# EAGLE library part KAC-12040 (library KAC-12040)
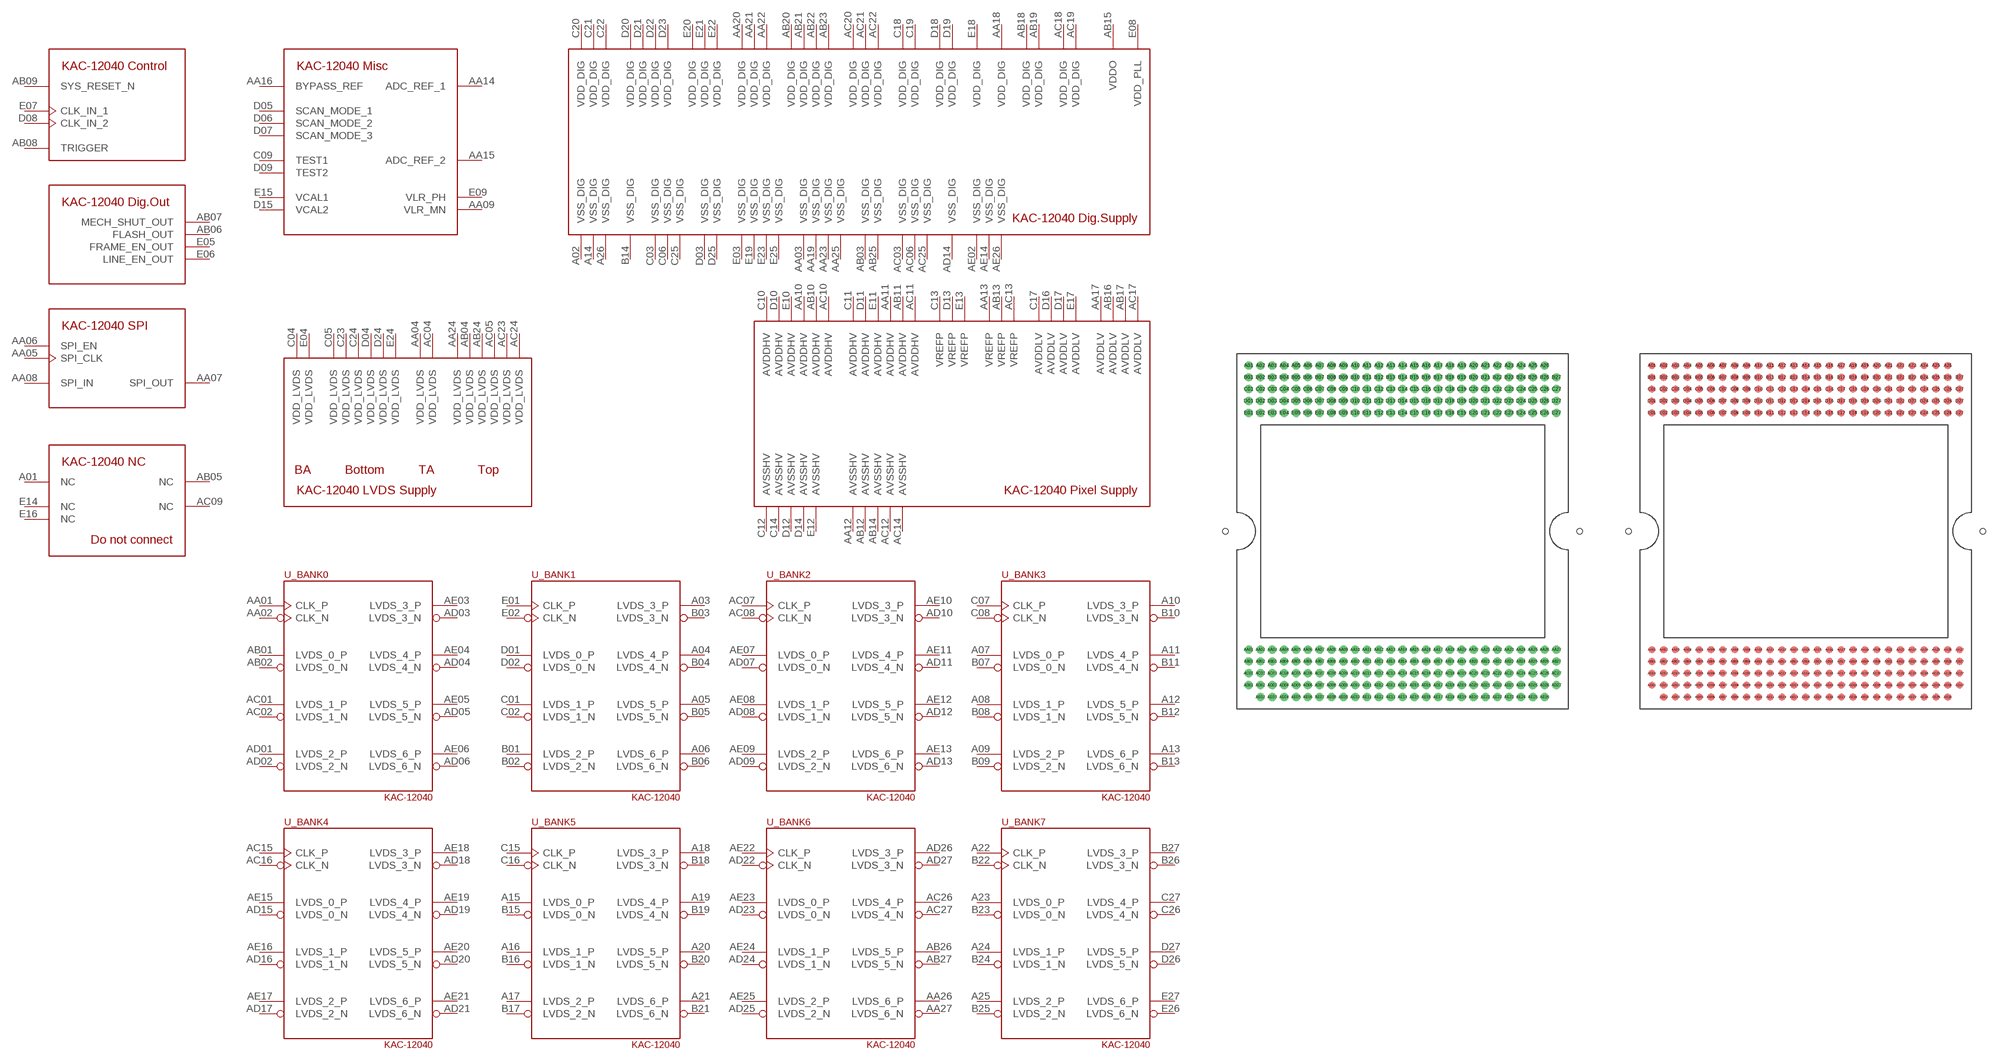
[diagram p0: symbol with the pads of KAC-12040-400T4; footprints KAC-12040-400T4, KAC-12040-RB501T4]

Designator prefix -; gates _MISC=KAC-12040_MISC _CTRL=KAC-12040_CTRL _NC=KAC-12040_NC _DIGOUT=KAC-12040_DIGOUT _PWR_LVDS=KAC-12040_PWR_LVDS _BANK0=KAS-12040_LVDS_BANK _BANK1=KAS-12040_LVDS_BANK _BANK2=KAS-12040_LVDS_BANK _BANK3=KAS-12040_LVDS_BANK _BANK4=KAS-12040_LVDS_BANK _BANK5=KAS-12040_LVDS_BANK _BANK7=KAS-12040_LVDS_BANK _BANK6=KAS-12040_LVDS_BANK _PWR_DIG=KAC-12040_PWR_DIG _PWR_PIXEL=KAC-12040_PWR_PIXEL _SPI=KAC-12040_SPI

## KAC-12040  [KAC-12040-400T4]
A01  _NC:NC  nc
A02  _PWR_DIG:VSS_DIG  pwr
A03  _BANK1:LVDS_3_P  out
A04  _BANK1:LVDS_4_P  out
A05  _BANK1:LVDS_5_P  out
A06  _BANK1:LVDS_6_P  out
A07  _BANK3:LVDS_0_P  out
A08  _BANK3:LVDS_1_P  out
A09  _BANK3:LVDS_2_P  out
A10  _BANK3:LVDS_3_P  out
A11  _BANK3:LVDS_4_P  out
A12  _BANK3:LVDS_5_P  out
A13  _BANK3:LVDS_6_P  out
A14  _PWR_DIG:VSS_DIG  pwr
A15  _BANK5:LVDS_0_P  out
A16  _BANK5:LVDS_1_P  out
A17  _BANK5:LVDS_2_P  out
A18  _BANK5:LVDS_3_P  out
A19  _BANK5:LVDS_4_P  out
A20  _BANK5:LVDS_5_P  out
A21  _BANK5:LVDS_6_P  out
A22  _BANK7:CLK_P  out
A23  _BANK7:LVDS_0_P  out
A24  _BANK7:LVDS_1_P  out
A25  _BANK7:LVDS_2_P  out
A26  _PWR_DIG:VSS_DIG  pwr
AA01  _BANK0:CLK_P  out
AA02  _BANK0:CLK_N  out
AA03  _PWR_DIG:VSS_DIG  pwr
AA04  _PWR_LVDS:VDD_LVDS  pwr
AA05  _SPI:SPI_CLK  in
AA06  _SPI:SPI_EN  in
AA07  _SPI:SPI_OUT  out
AA08  _SPI:SPI_IN  in
AA09  _MISC:VLR_MN
AA10  _PWR_PIXEL:AVDDHV  pwr
AA11  _PWR_PIXEL:AVDDHV  pwr
AA12  _PWR_PIXEL:AVSSHV  pwr
AA13  _PWR_PIXEL:VREFP  pwr
AA14  _MISC:ADC_REF_1
AA15  _MISC:ADC_REF_2
AA16  _MISC:BYPASS_REF
AA17  _PWR_PIXEL:AVDDLV  pwr
AA18  _PWR_DIG:VDD_DIG  pwr
AA19  _PWR_DIG:VSS_DIG  pwr
AA20  _PWR_DIG:VDD_DIG  pwr
AA21  _PWR_DIG:VDD_DIG  pwr
AA22  _PWR_DIG:VDD_DIG  pwr
AA23  _PWR_DIG:VSS_DIG  pwr
AA24  _PWR_LVDS:VDD_LVDS  pwr
AA25  _PWR_DIG:VSS_DIG  pwr
AA26  _BANK6:LVDS_6_P  out
AA27  _BANK6:LVDS_6_N  out
AB01  _BANK0:LVDS_0_P  out
AB02  _BANK0:LVDS_0_N  out
AB03  _PWR_DIG:VSS_DIG  pwr
AB04  _PWR_LVDS:VDD_LVDS  pwr
AB05  _NC:NC  nc
AB06  _DIGOUT:FLASH_OUT  out
AB07  _DIGOUT:MECH_SHUT_OUT  out
AB08  _CTRL:TRIGGER  in
AB09  _CTRL:SYS_RESET_N  in
AB10  _PWR_PIXEL:AVDDHV  pwr
AB11  _PWR_PIXEL:AVDDHV  pwr
AB12  _PWR_PIXEL:AVSSHV  pwr
AB13  _PWR_PIXEL:VREFP  pwr
AB14  _PWR_PIXEL:AVSSHV  pwr
AB15  _PWR_DIG:VDDO  pwr
AB16  _PWR_PIXEL:AVDDLV  pwr
AB17  _PWR_PIXEL:AVDDLV  pwr
AB18  _PWR_DIG:VDD_DIG  pwr
AB19  _PWR_DIG:VDD_DIG  pwr
AB20  _PWR_DIG:VDD_DIG  pwr
AB21  _PWR_DIG:VDD_DIG  pwr
AB22  _PWR_DIG:VDD_DIG  pwr
AB23  _PWR_DIG:VDD_DIG  pwr
AB24  _PWR_LVDS:VDD_LVDS  pwr
AB25  _PWR_DIG:VSS_DIG  pwr
AB26  _BANK6:LVDS_5_P  out
AB27  _BANK6:LVDS_5_N  out
AC01  _BANK0:LVDS_1_P  out
AC02  _BANK0:LVDS_1_N  out
AC03  _PWR_DIG:VSS_DIG  pwr
AC04  _PWR_LVDS:VDD_LVDS  pwr
AC05  _PWR_LVDS:VDD_LVDS  pwr
AC06  _PWR_DIG:VSS_DIG  pwr
AC07  _BANK2:CLK_P  out
AC08  _BANK2:CLK_N  out
AC09  _NC:NC  nc
AC10  _PWR_PIXEL:AVDDHV  pwr
AC11  _PWR_PIXEL:AVDDHV  pwr
AC12  _PWR_PIXEL:AVSSHV  pwr
AC13  _PWR_PIXEL:VREFP  pwr
AC14  _PWR_PIXEL:AVSSHV  pwr
AC15  _BANK4:CLK_P  out
AC16  _BANK4:CLK_N  out
AC17  _PWR_PIXEL:AVDDLV  pwr
AC18  _PWR_DIG:VDD_DIG  pwr
AC19  _PWR_DIG:VDD_DIG  pwr
AC20  _PWR_DIG:VDD_DIG  pwr
AC21  _PWR_DIG:VDD_DIG  pwr
AC22  _PWR_DIG:VDD_DIG  pwr
AC23  _PWR_LVDS:VDD_LVDS  pwr
AC24  _PWR_LVDS:VDD_LVDS  pwr
AC25  _PWR_DIG:VSS_DIG  pwr
AC26  _BANK6:LVDS_4_P  out
AC27  _BANK6:LVDS_4_N  out
AD01  _BANK0:LVDS_2_P  out
AD02  _BANK0:LVDS_2_N  out
AD03  _BANK0:LVDS_3_N  out
AD04  _BANK0:LVDS_4_N  out
AD05  _BANK0:LVDS_5_N  out
AD06  _BANK0:LVDS_6_N  out
AD07  _BANK2:LVDS_0_N  out
AD08  _BANK2:LVDS_1_N  out
AD09  _BANK2:LVDS_2_N  out
AD10  _BANK2:LVDS_3_N  out
AD11  _BANK2:LVDS_4_N  out
AD12  _BANK2:LVDS_5_N  out
AD13  _BANK2:LVDS_6_N  out
AD14  _PWR_DIG:VSS_DIG  pwr
AD15  _BANK4:LVDS_0_N  out
AD16  _BANK4:LVDS_1_N  out
AD17  _BANK4:LVDS_2_N  out
AD18  _BANK4:LVDS_3_N  out
AD19  _BANK4:LVDS_4_N  out
AD20  _BANK4:LVDS_5_N  out
AD21  _BANK4:LVDS_6_N  out
AD22  _BANK6:CLK_N  out
AD23  _BANK6:LVDS_0_N  out
AD24  _BANK6:LVDS_1_N  out
AD25  _BANK6:LVDS_2_N  out
AD26  _BANK6:LVDS_3_P  out
AD27  _BANK6:LVDS_3_N  out
AE02  _PWR_DIG:VSS_DIG  pwr
AE03  _BANK0:LVDS_3_P  out
AE04  _BANK0:LVDS_4_P  out
AE05  _BANK0:LVDS_5_P  out
AE06  _BANK0:LVDS_6_P  out
AE07  _BANK2:LVDS_0_P  out
AE08  _BANK2:LVDS_1_P  out
AE09  _BANK2:LVDS_2_P  out
AE10  _BANK2:LVDS_3_P  out
AE11  _BANK2:LVDS_4_P  out
AE12  _BANK2:LVDS_5_P  out
AE13  _BANK2:LVDS_6_P  out
AE14  _PWR_DIG:VSS_DIG  pwr
AE15  _BANK4:LVDS_0_P  out
AE16  _BANK4:LVDS_1_P  out
AE17  _BANK4:LVDS_2_P  out
AE18  _BANK4:LVDS_3_P  out
AE19  _BANK4:LVDS_4_P  out
AE20  _BANK4:LVDS_5_P  out
AE21  _BANK4:LVDS_6_P  out
AE22  _BANK6:CLK_P  out
AE23  _BANK6:LVDS_0_P  out
AE24  _BANK6:LVDS_1_P  out
AE25  _BANK6:LVDS_2_P  out
AE26  _PWR_DIG:VSS_DIG  pwr
B01  _BANK1:LVDS_2_P  out
B02  _BANK1:LVDS_2_N  out
B03  _BANK1:LVDS_3_N  out
B04  _BANK1:LVDS_4_N  out
B05  _BANK1:LVDS_5_N  out
B06  _BANK1:LVDS_6_N  out
B07  _BANK3:LVDS_0_N  out
B08  _BANK3:LVDS_1_N  out
B09  _BANK3:LVDS_2_N  out
B10  _BANK3:LVDS_3_N  out
B11  _BANK3:LVDS_4_N  out
B12  _BANK3:LVDS_5_N  out
B13  _BANK3:LVDS_6_N  out
B14  _PWR_DIG:VSS_DIG  pwr
B15  _BANK5:LVDS_0_N  out
B16  _BANK5:LVDS_1_N  out
B17  _BANK5:LVDS_2_N  out
B18  _BANK5:LVDS_3_N  out
B19  _BANK5:LVDS_4_N  out
B20  _BANK5:LVDS_5_N  out
B21  _BANK5:LVDS_6_N  out
B22  _BANK7:CLK_N  out
B23  _BANK7:LVDS_0_N  out
B24  _BANK7:LVDS_1_N  out
B25  _BANK7:LVDS_2_N  out
B26  _BANK7:LVDS_3_N  out
B27  _BANK7:LVDS_3_P  out
C01  _BANK1:LVDS_1_P  out
C02  _BANK1:LVDS_1_N  out
C03  _PWR_DIG:VSS_DIG  pwr
C04  _PWR_LVDS:VDD_LVDS  pwr
C05  _PWR_LVDS:VDD_LVDS  pwr
C06  _PWR_DIG:VSS_DIG  pwr
C07  _BANK3:CLK_P  out
C08  _BANK3:CLK_N  out
C09  _MISC:TEST1
C10  _PWR_PIXEL:AVDDHV  pwr
C11  _PWR_PIXEL:AVDDHV  pwr
C12  _PWR_PIXEL:AVSSHV  pwr
C13  _PWR_PIXEL:VREFP  pwr
C14  _PWR_PIXEL:AVSSHV  pwr
C15  _BANK5:CLK_P  out
C16  _BANK5:CLK_N  out
C17  _PWR_PIXEL:AVDDLV  pwr
C18  _PWR_DIG:VDD_DIG  pwr
C19  _PWR_DIG:VDD_DIG  pwr
C20  _PWR_DIG:VDD_DIG  pwr
C21  _PWR_DIG:VDD_DIG  pwr
C22  _PWR_DIG:VDD_DIG  pwr
C23  _PWR_LVDS:VDD_LVDS  pwr
C24  _PWR_LVDS:VDD_LVDS  pwr
C25  _PWR_DIG:VSS_DIG  pwr
C26  _BANK7:LVDS_4_N  out
C27  _BANK7:LVDS_4_P  out
D01  _BANK1:LVDS_0_P  out
D02  _BANK1:LVDS_0_N  out
D03  _PWR_DIG:VSS_DIG  pwr
D04  _PWR_LVDS:VDD_LVDS  pwr
D05  _MISC:SCAN_MODE_1
D06  _MISC:SCAN_MODE_2
D07  _MISC:SCAN_MODE_3
D08  _CTRL:CLK_IN_2  in
D09  _MISC:TEST2
D10  _PWR_PIXEL:AVDDHV  pwr
D11  _PWR_PIXEL:AVDDHV  pwr
D12  _PWR_PIXEL:AVSSHV  pwr
D13  _PWR_PIXEL:VREFP  pwr
D14  _PWR_PIXEL:AVSSHV  pwr
D15  _MISC:VCAL2
D16  _PWR_PIXEL:AVDDLV  pwr
D17  _PWR_PIXEL:AVDDLV  pwr
D18  _PWR_DIG:VDD_DIG  pwr
D19  _PWR_DIG:VDD_DIG  pwr
D20  _PWR_DIG:VDD_DIG  pwr
D21  _PWR_DIG:VDD_DIG  pwr
D22  _PWR_DIG:VDD_DIG  pwr
D23  _PWR_DIG:VDD_DIG  pwr
D24  _PWR_LVDS:VDD_LVDS  pwr
D25  _PWR_DIG:VSS_DIG  pwr
D26  _BANK7:LVDS_5_N  out
D27  _BANK7:LVDS_5_P  out
E01  _BANK1:CLK_P  out
E02  _BANK1:CLK_N  out
E03  _PWR_DIG:VSS_DIG  pwr
E04  _PWR_LVDS:VDD_LVDS  pwr
E05  _DIGOUT:FRAME_EN_OUT  out
E06  _DIGOUT:LINE_EN_OUT  out
E07  _CTRL:CLK_IN_1  in
E08  _PWR_DIG:VDD_PLL  pwr
E09  _MISC:VLR_PH
E10  _PWR_PIXEL:AVDDHV  pwr
E11  _PWR_PIXEL:AVDDHV  pwr
E12  _PWR_PIXEL:AVSSHV  pwr
E13  _PWR_PIXEL:VREFP  pwr
E14  _NC:NC  nc
E15  _MISC:VCAL1
E16  _NC:NC  nc
E17  _PWR_PIXEL:AVDDLV  pwr
E18  _PWR_DIG:VDD_DIG  pwr
E19  _PWR_DIG:VSS_DIG  pwr
E20  _PWR_DIG:VDD_DIG  pwr
E21  _PWR_DIG:VDD_DIG  pwr
E22  _PWR_DIG:VDD_DIG  pwr
E23  _PWR_DIG:VSS_DIG  pwr
E24  _PWR_LVDS:VDD_LVDS  pwr
E25  _PWR_DIG:VSS_DIG  pwr
E26  _BANK7:LVDS_6_N  out
E27  _BANK7:LVDS_6_P  out

## KAC-12040-RB501T4  [KAC-12040-RB501T4]
Pads as for KAC-12040-400T4

## KAC-12040FOXCONN-754  [FOXCONN-754]
Pads as for KAC-12040-400T4

## Footprint KAC-12040-400T4 (pad centres in mm)
Package for Andon Socket 10-29-18A-267-400T4-R27-L14 Through Hole socket for the KAC-12040 sensor. The sensor ceramic footprint and active area (4000x3000 pixels) are drawn as well for placement.
drill 0.361: A01 -16.51,17.78; A02 -15.24,17.78; A03 -13.97,17.78; A04 -12.7,17.78; A05 -11.43,17.78; A06 -10.16,17.78; A07 -8.89,17.78; A08 -7.62,17.78; A09 -6.35,17.78; A10 -5.08,17.78; A11 -3.81,17.78; A12 -2.54,17.78; A13 -1.27,17.78; A14 0,17.78; A15 1.27,17.78; A16 2.54,17.78; A17 3.81,17.78; A18 5.08,17.78; A19 6.35,17.78; A20 7.62,17.78; A21 8.89,17.78; A22 10.16,17.78; A23 11.43,17.78; A24 12.7,17.78; A25 13.97,17.78; A26 15.24,17.78; AA01 -16.51,-12.7; AA02 -15.24,-12.7; AA03 -13.97,-12.7; AA04 -12.7,-12.7; AA05 -11.43,-12.7; AA06 -10.16,-12.7; AA07 -8.89,-12.7; AA08 -7.62,-12.7; AA09 -6.35,-12.7; AA10 -5.08,-12.7; AA11 -3.81,-12.7; AA12 -2.54,-12.7; AA13 -1.27,-12.7; AA14 0,-12.7; AA15 1.27,-12.7; AA16 2.54,-12.7; AA17 3.81,-12.7; AA18 5.08,-12.7; AA19 6.35,-12.7; AA20 7.62,-12.7; AA21 8.89,-12.7; AA22 10.16,-12.7; AA23 11.43,-12.7; AA24 12.7,-12.7; AA25 13.97,-12.7; AA26 15.24,-12.7; AA27 16.51,-12.7; AB01 -16.51,-13.97; AB02 -15.24,-13.97; AB03 -13.97,-13.97; AB04 -12.7,-13.97; AB05 -11.43,-13.97; AB06 -10.16,-13.97; AB07 -8.89,-13.97; AB08 -7.62,-13.97; AB09 -6.35,-13.97; AB10 -5.08,-13.97; AB11 -3.81,-13.97; AB12 -2.54,-13.97; AB13 -1.27,-13.97; AB14 0,-13.97; AB15 1.27,-13.97; AB16 2.54,-13.97; AB17 3.81,-13.97; AB18 5.08,-13.97; AB19 6.35,-13.97; AB20 7.62,-13.97; AB21 8.89,-13.97; AB22 10.16,-13.97; AB23 11.43,-13.97; AB24 12.7,-13.97; AB25 13.97,-13.97; AB26 15.24,-13.97; AB27 16.51,-13.97; AC01 -16.51,-15.24; AC02 -15.24,-15.24; AC03 -13.97,-15.24; AC04 -12.7,-15.24; AC05 -11.43,-15.24; AC06 -10.16,-15.24; AC07 -8.89,-15.24; AC08 -7.62,-15.24; AC09 -6.35,-15.24; AC10 -5.08,-15.24; AC11 -3.81,-15.24; AC12 -2.54,-15.24; AC13 -1.27,-15.24; AC14 0,-15.24; AC15 1.27,-15.24; AC16 2.54,-15.24; AC17 3.81,-15.24; AC18 5.08,-15.24; AC19 6.35,-15.24; AC20 7.62,-15.24; AC21 8.89,-15.24; AC22 10.16,-15.24; AC23 11.43,-15.24; AC24 12.7,-15.24; AC25 13.97,-15.24; AC26 15.24,-15.24; AC27 16.51,-15.24; AD01 -16.51,-16.51; AD02 -15.24,-16.51; AD03 -13.97,-16.51; AD04 -12.7,-16.51; AD05 -11.43,-16.51; AD06 -10.16,-16.51; AD07 -8.89,-16.51; AD08 -7.62,-16.51; AD09 -6.35,-16.51; AD10 -5.08,-16.51; AD11 -3.81,-16.51; AD12 -2.54,-16.51; AD13 -1.27,-16.51; AD14 0,-16.51; AD15 1.27,-16.51; AD16 2.54,-16.51; AD17 3.81,-16.51; AD18 5.08,-16.51; AD19 6.35,-16.51; AD20 7.62,-16.51; AD21 8.89,-16.51; AD22 10.16,-16.51; AD23 11.43,-16.51; AD24 12.7,-16.51; AD25 13.97,-16.51; AD26 15.24,-16.51; AD27 16.51,-16.51; AE02 -15.24,-17.78; AE03 -13.97,-17.78; AE04 -12.7,-17.78; AE05 -11.43,-17.78; AE06 -10.16,-17.78; AE07 -8.89,-17.78; AE08 -7.62,-17.78; AE09 -6.35,-17.78; AE10 -5.08,-17.78; AE11 -3.81,-17.78; AE12 -2.54,-17.78; AE13 -1.27,-17.78; AE14 0,-17.78; AE15 1.27,-17.78; AE16 2.54,-17.78; AE17 3.81,-17.78; AE18 5.08,-17.78; AE19 6.35,-17.78; AE20 7.62,-17.78; AE21 8.89,-17.78; AE22 10.16,-17.78; AE23 11.43,-17.78; AE24 12.7,-17.78; AE25 13.97,-17.78; AE26 15.24,-17.78; B01 -16.51,16.51; B02 -15.24,16.51; B03 -13.97,16.51; B04 -12.7,16.51; B05 -11.43,16.51; B06 -10.16,16.51; B07 -8.89,16.51; B08 -7.62,16.51; B09 -6.35,16.51; B10 -5.08,16.51; B11 -3.81,16.51; B12 -2.54,16.51; B13 -1.27,16.51; B14 0,16.51; B15 1.27,16.51; B16 2.54,16.51; B17 3.81,16.51; B18 5.08,16.51; B19 6.35,16.51; B20 7.62,16.51; B21 8.89,16.51; B22 10.16,16.51; B23 11.43,16.51; B24 12.7,16.51; B25 13.97,16.51; B26 15.24,16.51; B27 16.51,16.51; C01 -16.51,15.24; C02 -15.24,15.24; C03 -13.97,15.24; C04 -12.7,15.24; C05 -11.43,15.24; C06 -10.16,15.24; C07 -8.89,15.24; C08 -7.62,15.24; C09 -6.35,15.24; C10 -5.08,15.24; C11 -3.81,15.24; C12 -2.54,15.24; C13 -1.27,15.24; C14 0,15.24; C15 1.27,15.24; C16 2.54,15.24; C17 3.81,15.24; C18 5.08,15.24; C19 6.35,15.24; C20 7.62,15.24; C21 8.89,15.24; C22 10.16,15.24; C23 11.43,15.24; C24 12.7,15.24; C25 13.97,15.24; C26 15.24,15.24; C27 16.51,15.24; D01 -16.51,13.97; D02 -15.24,13.97; D03 -13.97,13.97; D04 -12.7,13.97; D05 -11.43,13.97; D06 -10.16,13.97; D07 -8.89,13.97; D08 -7.62,13.97; D09 -6.35,13.97; D10 -5.08,13.97; D11 -3.81,13.97; D12 -2.54,13.97; D13 -1.27,13.97; D14 0,13.97; D15 1.27,13.97; D16 2.54,13.97; D17 3.81,13.97; D18 5.08,13.97; D19 6.35,13.97; D20 7.62,13.97; D21 8.89,13.97; D22 10.16,13.97; D23 11.43,13.97; D24 12.7,13.97; D25 13.97,13.97; D26 15.24,13.97; D27 16.51,13.97; E01 -16.51,12.7; E02 -15.24,12.7; E03 -13.97,12.7; E04 -12.7,12.7; E05 -11.43,12.7; E06 -10.16,12.7; E07 -8.89,12.7; E08 -7.62,12.7; E09 -6.35,12.7; E10 -5.08,12.7; E11 -3.81,12.7; E12 -2.54,12.7; E13 -1.27,12.7; E14 0,12.7; E15 1.27,12.7; E16 2.54,12.7; E17 3.81,12.7; E18 5.08,12.7; E19 6.35,12.7; E20 7.62,12.7; E21 8.89,12.7; E22 10.16,12.7; E23 11.43,12.7; E24 12.7,12.7; E25 13.97,12.7; E26 15.24,12.7; E27 16.51,12.7
hole 0.6 at -19,0
hole 0.6 at 19,0

## Footprint KAC-12040-RB501T4 (pad centres in mm)
Package for Andon Socket 10-29-18A-267-RB501T4-R27-L14 SM roller ball socket for the KAC-12040 sensor. The sensor ceramic footprint and active area (4000x3000 pixels) are drawn as well for placement.
smd 0.76 x 0.76: A01 -16.51,17.78; A02 -15.24,17.78; A03 -13.97,17.78; A04 -12.7,17.78; A05 -11.43,17.78; A06 -10.16,17.78; A07 -8.89,17.78; A08 -7.62,17.78; A09 -6.35,17.78; A10 -5.08,17.78; A11 -3.81,17.78; A12 -2.54,17.78; A13 -1.27,17.78; A14 0,17.78; A15 1.27,17.78; A16 2.54,17.78; A17 3.81,17.78; A18 5.08,17.78; A19 6.35,17.78; A20 7.62,17.78; A21 8.89,17.78; A22 10.16,17.78; A23 11.43,17.78; A24 12.7,17.78; A25 13.97,17.78; A26 15.24,17.78; AA01 -16.51,-12.7; AA02 -15.24,-12.7; AA03 -13.97,-12.7; AA04 -12.7,-12.7; AA05 -11.43,-12.7; AA06 -10.16,-12.7; AA07 -8.89,-12.7; AA08 -7.62,-12.7; AA09 -6.35,-12.7; AA10 -5.08,-12.7; AA11 -3.81,-12.7; AA12 -2.54,-12.7; AA13 -1.27,-12.7; AA14 0,-12.7; AA15 1.27,-12.7; AA16 2.54,-12.7; AA17 3.81,-12.7; AA18 5.08,-12.7; AA19 6.35,-12.7; AA20 7.62,-12.7; AA21 8.89,-12.7; AA22 10.16,-12.7; AA23 11.43,-12.7; AA24 12.7,-12.7; AA25 13.97,-12.7; AA26 15.24,-12.7; AA27 16.51,-12.7; AB01 -16.51,-13.97; AB02 -15.24,-13.97; AB03 -13.97,-13.97; AB04 -12.7,-13.97; AB05 -11.43,-13.97; AB06 -10.16,-13.97; AB07 -8.89,-13.97; AB08 -7.62,-13.97; AB09 -6.35,-13.97; AB10 -5.08,-13.97; AB11 -3.81,-13.97; AB12 -2.54,-13.97; AB13 -1.27,-13.97; AB14 0,-13.97; AB15 1.27,-13.97; AB16 2.54,-13.97; AB17 3.81,-13.97; AB18 5.08,-13.97; AB19 6.35,-13.97; AB20 7.62,-13.97; AB21 8.89,-13.97; AB22 10.16,-13.97; AB23 11.43,-13.97; AB24 12.7,-13.97; AB25 13.97,-13.97; AB26 15.24,-13.97; AB27 16.51,-13.97; AC01 -16.51,-15.24; AC02 -15.24,-15.24; AC03 -13.97,-15.24; AC04 -12.7,-15.24; AC05 -11.43,-15.24; AC06 -10.16,-15.24; AC07 -8.89,-15.24; AC08 -7.62,-15.24; AC09 -6.35,-15.24; AC10 -5.08,-15.24; AC11 -3.81,-15.24; AC12 -2.54,-15.24; AC13 -1.27,-15.24; AC14 0,-15.24; AC15 1.27,-15.24; AC16 2.54,-15.24; AC17 3.81,-15.24; AC18 5.08,-15.24; AC19 6.35,-15.24; AC20 7.62,-15.24; AC21 8.89,-15.24; AC22 10.16,-15.24; AC23 11.43,-15.24; AC24 12.7,-15.24; AC25 13.97,-15.24; AC26 15.24,-15.24; AC27 16.51,-15.24; AD01 -16.51,-16.51; AD02 -15.24,-16.51; AD03 -13.97,-16.51; AD04 -12.7,-16.51; AD05 -11.43,-16.51; AD06 -10.16,-16.51; AD07 -8.89,-16.51; AD08 -7.62,-16.51; AD09 -6.35,-16.51; AD10 -5.08,-16.51; AD11 -3.81,-16.51; AD12 -2.54,-16.51; AD13 -1.27,-16.51; AD14 0,-16.51; AD15 1.27,-16.51; AD16 2.54,-16.51; AD17 3.81,-16.51; AD18 5.08,-16.51; AD19 6.35,-16.51; AD20 7.62,-16.51; AD21 8.89,-16.51; AD22 10.16,-16.51; AD23 11.43,-16.51; AD24 12.7,-16.51; AD25 13.97,-16.51; AD26 15.24,-16.51; AD27 16.51,-16.51; AE02 -15.24,-17.78; AE03 -13.97,-17.78; AE04 -12.7,-17.78; AE05 -11.43,-17.78; AE06 -10.16,-17.78; AE07 -8.89,-17.78; AE08 -7.62,-17.78; AE09 -6.35,-17.78; AE10 -5.08,-17.78; AE11 -3.81,-17.78; AE12 -2.54,-17.78; AE13 -1.27,-17.78; AE14 0,-17.78; AE15 1.27,-17.78; AE16 2.54,-17.78; AE17 3.81,-17.78; AE18 5.08,-17.78; AE19 6.35,-17.78; AE20 7.62,-17.78; AE21 8.89,-17.78; AE22 10.16,-17.78; AE23 11.43,-17.78; AE24 12.7,-17.78; AE25 13.97,-17.78; AE26 15.24,-17.78; B01 -16.51,16.51; B02 -15.24,16.51; B03 -13.97,16.51; B04 -12.7,16.51; B05 -11.43,16.51; B06 -10.16,16.51; B07 -8.89,16.51; B08 -7.62,16.51; B09 -6.35,16.51; B10 -5.08,16.51; B11 -3.81,16.51; B12 -2.54,16.51; B13 -1.27,16.51; B14 0,16.51; B15 1.27,16.51; B16 2.54,16.51; B17 3.81,16.51; B18 5.08,16.51; B19 6.35,16.51; B20 7.62,16.51; B21 8.89,16.51; B22 10.16,16.51; B23 11.43,16.51; B24 12.7,16.51; B25 13.97,16.51; B26 15.24,16.51; B27 16.51,16.51; C01 -16.51,15.24; C02 -15.24,15.24; C03 -13.97,15.24; C04 -12.7,15.24; C05 -11.43,15.24; C06 -10.16,15.24; C07 -8.89,15.24; C08 -7.62,15.24; C09 -6.35,15.24; C10 -5.08,15.24; C11 -3.81,15.24; C12 -2.54,15.24; C13 -1.27,15.24; C14 0,15.24; C15 1.27,15.24; C16 2.54,15.24; C17 3.81,15.24; C18 5.08,15.24; C19 6.35,15.24; C20 7.62,15.24; C21 8.89,15.24; C22 10.16,15.24; C23 11.43,15.24; C24 12.7,15.24; C25 13.97,15.24; C26 15.24,15.24; C27 16.51,15.24; D01 -16.51,13.97; D02 -15.24,13.97; D03 -13.97,13.97; D04 -12.7,13.97; D05 -11.43,13.97; D06 -10.16,13.97; D07 -8.89,13.97; D08 -7.62,13.97; D09 -6.35,13.97; D10 -5.08,13.97; D11 -3.81,13.97; D12 -2.54,13.97; D13 -1.27,13.97; D14 0,13.97; D15 1.27,13.97; D16 2.54,13.97; D17 3.81,13.97; D18 5.08,13.97; D19 6.35,13.97; D20 7.62,13.97; D21 8.89,13.97; D22 10.16,13.97; D23 11.43,13.97; D24 12.7,13.97; D25 13.97,13.97; D26 15.24,13.97; D27 16.51,13.97; E01 -16.51,12.7; E02 -15.24,12.7; E03 -13.97,12.7; E04 -12.7,12.7; E05 -11.43,12.7; E06 -10.16,12.7; E07 -8.89,12.7; E08 -7.62,12.7; E09 -6.35,12.7; E10 -5.08,12.7; E11 -3.81,12.7; E12 -2.54,12.7; E13 -1.27,12.7; E14 0,12.7; E15 1.27,12.7; E16 2.54,12.7; E17 3.81,12.7; E18 5.08,12.7; E19 6.35,12.7; E20 7.62,12.7; E21 8.89,12.7; E22 10.16,12.7; E23 11.43,12.7; E24 12.7,12.7; E25 13.97,12.7; E26 15.24,12.7; E27 16.51,12.7
hole 0.6 at -19,0
hole 0.6 at 19,0
hole 0.6 at -19,0
hole 0.6 at 19,0

## Footprint FOXCONN-754 (pad centres in mm)
Package for FoxConn 754 ZIF Socket SM roller ball socket used with the KAC-12040 sensor. The sensor ceramic footprint and active area (4000x3000 pixels) are drawn as well for placement.
smd 0.76 x 0.76: A01 -16.51,17.78; A02 -15.24,17.78; A03 -13.97,17.78; A04 -12.7,17.78; A05 -11.43,17.78; A06 -10.16,17.78; A07 -8.89,17.78; A08 -7.62,17.78; A09 -6.35,17.78; A10 -5.08,17.78; A11 -3.81,17.78; A12 -2.54,17.78; A13 -1.27,17.78; A14 0,17.78; A15 1.27,17.78; A16 2.54,17.78; A17 3.81,17.78; A18 5.08,17.78; A19 6.35,17.78; A20 7.62,17.78; A21 8.89,17.78; A22 10.16,17.78; A23 11.43,17.78; A24 12.7,17.78; A25 13.97,17.78; A26 15.24,17.78; AA01 -16.51,-12.7; AA02 -15.24,-12.7; AA03 -13.97,-12.7; AA04 -12.7,-12.7; AA05 -11.43,-12.7; AA06 -10.16,-12.7; AA07 -8.89,-12.7; AA08 -7.62,-12.7; AA09 -6.35,-12.7; AA10 -5.08,-12.7; AA11 -3.81,-12.7; AA12 -2.54,-12.7; AA13 -1.27,-12.7; AA14 0,-12.7; AA15 1.27,-12.7; AA16 2.54,-12.7; AA17 3.81,-12.7; AA18 5.08,-12.7; AA19 6.35,-12.7; AA20 7.62,-12.7; AA21 8.89,-12.7; AA22 10.16,-12.7; AA23 11.43,-12.7; AA24 12.7,-12.7; AA25 13.97,-12.7; AA26 15.24,-12.7; AA27 16.51,-12.7; AB01 -16.51,-13.97; AB02 -15.24,-13.97; AB03 -13.97,-13.97; AB04 -12.7,-13.97; AB05 -11.43,-13.97; AB06 -10.16,-13.97; AB07 -8.89,-13.97; AB08 -7.62,-13.97; AB09 -6.35,-13.97; AB10 -5.08,-13.97; AB11 -3.81,-13.97; AB12 -2.54,-13.97; AB13 -1.27,-13.97; AB14 0,-13.97; AB15 1.27,-13.97; AB16 2.54,-13.97; AB17 3.81,-13.97; AB18 5.08,-13.97; AB19 6.35,-13.97; AB20 7.62,-13.97; AB21 8.89,-13.97; AB22 10.16,-13.97; AB23 11.43,-13.97; AB24 12.7,-13.97; AB25 13.97,-13.97; AB26 15.24,-13.97; AB27 16.51,-13.97; AC01 -16.51,-15.24; AC02 -15.24,-15.24; AC03 -13.97,-15.24; AC04 -12.7,-15.24; AC05 -11.43,-15.24; AC06 -10.16,-15.24; AC07 -8.89,-15.24; AC08 -7.62,-15.24; AC09 -6.35,-15.24; AC10 -5.08,-15.24; AC11 -3.81,-15.24; AC12 -2.54,-15.24; AC13 -1.27,-15.24; AC14 0,-15.24; AC15 1.27,-15.24; AC16 2.54,-15.24; AC17 3.81,-15.24; AC18 5.08,-15.24; AC19 6.35,-15.24; AC20 7.62,-15.24; AC21 8.89,-15.24; AC22 10.16,-15.24; AC23 11.43,-15.24; AC24 12.7,-15.24; AC25 13.97,-15.24; AC26 15.24,-15.24; AC27 16.51,-15.24; AD01 -16.51,-16.51; AD02 -15.24,-16.51; AD03 -13.97,-16.51; AD04 -12.7,-16.51; AD05 -11.43,-16.51; AD06 -10.16,-16.51; AD07 -8.89,-16.51; AD08 -7.62,-16.51; AD09 -6.35,-16.51; AD10 -5.08,-16.51; AD11 -3.81,-16.51; AD12 -2.54,-16.51; AD13 -1.27,-16.51; AD14 0,-16.51; AD15 1.27,-16.51; AD16 2.54,-16.51; AD17 3.81,-16.51; AD18 5.08,-16.51; AD19 6.35,-16.51; AD20 7.62,-16.51; AD21 8.89,-16.51; AD22 10.16,-16.51; AD23 11.43,-16.51; AD24 12.7,-16.51; AD25 13.97,-16.51; AD26 15.24,-16.51; AD27 16.51,-16.51; AE02 -15.24,-17.78; AE03 -13.97,-17.78; AE04 -12.7,-17.78; AE05 -11.43,-17.78; AE06 -10.16,-17.78; AE07 -8.89,-17.78; AE08 -7.62,-17.78; AE09 -6.35,-17.78; AE10 -5.08,-17.78; AE11 -3.81,-17.78; AE12 -2.54,-17.78; AE13 -1.27,-17.78; AE14 0,-17.78; AE15 1.27,-17.78; AE16 2.54,-17.78; AE17 3.81,-17.78; AE18 5.08,-17.78; AE19 6.35,-17.78; AE20 7.62,-17.78; AE21 8.89,-17.78; AE22 10.16,-17.78; AE23 11.43,-17.78; AE24 12.7,-17.78; AE25 13.97,-17.78; AE26 15.24,-17.78; B01 -16.51,16.51; B02 -15.24,16.51; B03 -13.97,16.51; B04 -12.7,16.51; B05 -11.43,16.51; B06 -10.16,16.51; B07 -8.89,16.51; B08 -7.62,16.51; B09 -6.35,16.51; B10 -5.08,16.51; B11 -3.81,16.51; B12 -2.54,16.51; B13 -1.27,16.51; B14 0,16.51; B15 1.27,16.51; B16 2.54,16.51; B17 3.81,16.51; B18 5.08,16.51; B19 6.35,16.51; B20 7.62,16.51; B21 8.89,16.51; B22 10.16,16.51; B23 11.43,16.51; B24 12.7,16.51; B25 13.97,16.51; B26 15.24,16.51; B27 16.51,16.51; C01 -16.51,15.24; C02 -15.24,15.24; C03 -13.97,15.24; C04 -12.7,15.24; C05 -11.43,15.24; C06 -10.16,15.24; C07 -8.89,15.24; C08 -7.62,15.24; C09 -6.35,15.24; C10 -5.08,15.24; C11 -3.81,15.24; C12 -2.54,15.24; C13 -1.27,15.24; C14 0,15.24; C15 1.27,15.24; C16 2.54,15.24; C17 3.81,15.24; C18 5.08,15.24; C19 6.35,15.24; C20 7.62,15.24; C21 8.89,15.24; C22 10.16,15.24; C23 11.43,15.24; C24 12.7,15.24; C25 13.97,15.24; C26 15.24,15.24; C27 16.51,15.24; D01 -16.51,13.97; D02 -15.24,13.97; D03 -13.97,13.97; D04 -12.7,13.97; D05 -11.43,13.97; D06 -10.16,13.97; D07 -8.89,13.97; D08 -7.62,13.97; D09 -6.35,13.97; D10 -5.08,13.97; D11 -3.81,13.97; D12 -2.54,13.97; D13 -1.27,13.97; D14 0,13.97; D15 1.27,13.97; D16 2.54,13.97; D17 3.81,13.97; D18 5.08,13.97; D19 6.35,13.97; D20 7.62,13.97; D21 8.89,13.97; D22 10.16,13.97; D23 11.43,13.97; D24 12.7,13.97; D25 13.97,13.97; D26 15.24,13.97; D27 16.51,13.97; E01 -16.51,12.7; E02 -15.24,12.7; E03 -13.97,12.7; E04 -12.7,12.7; E05 -11.43,12.7; E06 -10.16,12.7; E07 -8.89,12.7; E08 -7.62,12.7; E09 -6.35,12.7; E10 -5.08,12.7; E11 -3.81,12.7; E12 -2.54,12.7; E13 -1.27,12.7; E14 0,12.7; E15 1.27,12.7; E16 2.54,12.7; E17 3.81,12.7; E18 5.08,12.7; E19 6.35,12.7; E20 7.62,12.7; E21 8.89,12.7; E22 10.16,12.7; E23 11.43,12.7; E24 12.7,12.7; E25 13.97,12.7; E26 15.24,12.7; E27 16.51,12.7; NC01 -17.78,16.51; NC02 -17.78,15.24; NC03 -17.78,13.97; NC04 -17.78,12.7; NC05 -17.78,11.43; NC06 -17.78,10.16; NC07 -17.78,8.89; NC08 -17.78,7.62; NC09 -17.78,6.35; NC10 -17.78,5.08; NC11 -17.78,3.81; NC12 -17.78,2.54; NC13 -17.78,1.27; NC14 -17.78,0; NC15 -17.78,-1.27; NC16 -17.78,-2.54; NC17 -17.78,-3.81; NC18 -17.78,-5.08; NC19 -17.78,-6.35; NC20 -17.78,-7.62; NC21 -17.78,-8.89; NC22 -17.78,-10.16; NC23 -17.78,-11.43; NC24 -17.78,-12.7; NC25 -17.78,-13.97; NC26 -17.78,-15.24; NC27 -16.51,11.43; NC28 -16.51,10.16; NC29 -16.51,8.89; NC30 -16.51,7.62; NC31 -16.51,6.35; NC32 -16.51,5.08; NC33 -16.51,3.81; NC34 -16.51,2.54; NC35 -16.51,1.27; NC36 -16.51,0; NC37 -16.51,-1.27; NC38 -16.51,-2.54; NC39 -16.51,-3.81; NC40 -16.51,-5.08; NC41 -16.51,-6.35; NC42 -16.51,-7.62; NC43 -16.51,-8.89; NC44 -16.51,-10.16; NC45 -16.51,-11.43; NC46 -15.24,11.43; NC47 -15.24,10.16; NC48 -15.24,8.89; NC49 -15.24,7.62; NC50 -15.24,6.35; NC51 -15.24,5.08; NC52 -15.24,3.81; NC53 -15.24,2.54; NC54 -15.24,1.27; NC55 -15.24,0; NC56 -15.24,-1.27; NC57 -15.24,-2.54; NC58 -15.24,-3.81; NC59 -15.24,-5.08; NC60 -15.24,-6.35; NC61 -15.24,-7.62; NC62 -15.24,-8.89; NC63 -15.24,-10.16; NC64 -15.24,-11.43; NC65 -13.97,11.43; NC66 -13.97,10.16; NC67 -13.97,8.89; NC68 -13.97,7.62; NC69 -13.97,6.35; NC70 -13.97,5.08; NC71 -13.97,3.81; NC72 -13.97,2.54; NC73 -13.97,1.27; NC74 -13.97,0; NC75 -13.97,-1.27; NC76 -13.97,-2.54; NC77 -13.97,-3.81; NC78 -13.97,-5.08; NC79 -13.97,-6.35; NC80 -13.97,-7.62; NC81 -13.97,-8.89; NC82 -13.97,-10.16; NC83 -13.97,-11.43; NC84 -12.7,11.43; NC85 -12.7,10.16; NC86 -12.7,8.89; NC87 -12.7,7.62; NC88 -12.7,6.35; NC89 -12.7,5.08; NC90 -12.7,3.81; NC91 -12.7,2.54; NC92 -12.7,1.27; NC93 -12.7,0; NC94 -12.7,-1.27; NC95 -12.7,-2.54; NC96 -12.7,-3.81; NC97 -12.7,-5.08; NC98 -12.7,-6.35; NC99 -12.7,-7.62; NC100 -12.7,-8.89; NC101 -12.7,-10.16; NC102 -12.7,-11.43; NC103 -11.43,11.43; NC104 -11.43,10.16; NC105 -11.43,8.89; NC106 -11.43,7.62; NC107 -11.43,6.35; NC108 -11.43,5.08; NC109 -11.43,3.81; NC110 -11.43,2.54; NC111 -11.43,1.27; NC112 -11.43,0; NC113 -11.43,-1.27; NC114 -11.43,-2.54; NC115 -11.43,-3.81; NC116 -11.43,-5.08; NC117 -11.43,-6.35; NC118 -11.43,-7.62; NC119 -11.43,-8.89; NC120 -11.43,-10.16; NC121 -11.43,-11.43; NC122 -10.16,11.43; NC123 -10.16,10.16; NC124 -10.16,8.89; NC125 -10.16,7.62; NC126 -10.16,6.35; NC127 -10.16,5.08; NC128 -10.16,3.81; NC129 -10.16,2.54; NC130 -10.16,1.27; NC131 -10.16,0; NC132 -10.16,-1.27; NC133 -10.16,-2.54; NC134 -10.16,-3.81; NC135 -10.16,-5.08; NC136 -10.16,-6.35; NC137 -10.16,-7.62; NC138 -10.16,-8.89; NC139 -10.16,-10.16; NC140 -10.16,-11.43; NC141 -8.89,11.43; NC142 -8.89,10.16; NC143 -8.89,8.89; NC144 -8.89,7.62; NC145 -8.89,6.35; NC146 -8.89,5.08; NC147 -8.89,3.81; NC148 -8.89,2.54; NC149 -8.89,1.27; NC150 -8.89,0; NC151 -8.89,-1.27; NC152 -8.89,-2.54; NC153 -8.89,-3.81; NC154 -8.89,-5.08; NC155 -8.89,-6.35; NC156 -8.89,-7.62; NC157 -8.89,-8.89; NC158 -8.89,-10.16; NC159 -8.89,-11.43; NC160 -7.62,11.43; NC161 -7.62,10.16; NC162 -7.62,8.89; NC163 -7.62,7.62; NC164 -7.62,6.35; NC165 -7.62,5.08; NC166 -7.62,3.81; NC167 -7.62,2.54; NC168 -7.62,1.27; NC169 -7.62,0; NC170 -7.62,-1.27; NC171 -7.62,-2.54; NC172 -7.62,-3.81; NC173 -7.62,-5.08; NC174 -7.62,-6.35; NC175 -7.62,-7.62; NC176 -7.62,-8.89; NC177 -7.62,-10.16; NC178 -7.62,-11.43; NC179 -6.35,11.43; NC180 -6.35,10.16; NC181 -6.35,8.89; NC182 -6.35,7.62; NC183 -6.35,6.35; NC184 -6.35,5.08; NC185 -6.35,3.81; NC186 -6.35,2.54; NC187 -6.35,1.27; NC188 -6.35,0; NC189 -6.35,-1.27; NC190 -6.35,-2.54; NC191 -6.35,-3.81; NC192 -6.35,-5.08; NC193 -6.35,-6.35; NC194 -6.35,-7.62; NC195 -6.35,-8.89; NC196 -6.35,-10.16; NC197 -6.35,-11.43; NC198 -5.08,11.43; NC199 -5.08,10.16; NC200 -5.08,8.89; NC201 -5.08,7.62; NC202 -5.08,6.35; NC212 -5.08,-6.35; NC213 -5.08,-7.62; NC214 -5.08,-8.89; NC215 -5.08,-10.16; NC216 -5.08,-11.43; NC217 -3.81,11.43; NC218 -3.81,10.16; NC219 -3.81,8.89; NC220 -3.81,7.62; NC221 -3.81,6.35; NC231 -3.81,-6.35; NC232 -3.81,-7.62; NC233 -3.81,-8.89; NC234 -3.81,-10.16; NC235 -3.81,-11.43; NC236 -2.54,11.43; NC237 -2.54,10.16; NC238 -2.54,8.89; NC239 -2.54,7.62; NC240 -2.54,6.35; NC250 -2.54,-6.35; NC251 -2.54,-7.62; NC252 -2.54,-8.89; NC253 -2.54,-10.16; NC254 -2.54,-11.43; NC255 -1.27,11.43; NC256 -1.27,10.16; NC257 -1.27,8.89; NC258 -1.27,7.62; NC259 -1.27,6.35; NC269 -1.27,-6.35; NC270 -1.27,-7.62; NC271 -1.27,-8.89; NC272 -1.27,-10.16; NC273 -1.27,-11.43; NC274 0,11.43; NC275 0,10.16; NC276 0,8.89; NC277 0,7.62; NC278 0,6.35; NC288 0,-6.35; NC289 0,-7.62; NC290 0,-8.89; NC291 0,-10.16; NC292 0,-11.43; NC293 1.27,11.43; NC294 1.27,10.16; NC295 1.27,8.89; NC296 1.27,7.62; NC297 1.27,6.35; NC307 1.27,-6.35; NC308 1.27,-7.62; NC309 1.27,-8.89; NC310 1.27,-10.16; NC311 1.27,-11.43; NC312 2.54,11.43; NC313 2.54,10.16; NC314 2.54,8.89; NC315 2.54,7.62; NC316 2.54,6.35; NC326 2.54,-6.35; NC327 2.54,-7.62; NC328 2.54,-8.89; NC329 2.54,-10.16; NC330 2.54,-11.43; NC331 3.81,11.43; NC332 3.81,10.16; NC333 3.81,8.89; NC334 3.81,7.62; NC335 3.81,6.35; NC345 3.81,-6.35; NC346 3.81,-7.62; NC347 3.81,-8.89; NC348 3.81,-10.16; NC349 3.81,-11.43; NC350 5.08,11.43; NC351 5.08,10.16; NC352 5.08,8.89; NC353 5.08,7.62; NC354 5.08,6.35; NC364 5.08,-6.35; NC365 5.08,-7.62; NC366 5.08,-8.89; NC367 5.08,-10.16; NC368 5.08,-11.43; NC369 6.35,11.43; NC370 6.35,10.16; NC371 6.35,8.89; NC372 6.35,7.62; NC373 6.35,6.35; NC374 6.35,5.08; NC375 6.35,3.81; NC376 6.35,2.54; NC377 6.35,1.27; NC378 6.35,0; NC379 6.35,-1.27; NC380 6.35,-2.54; NC381 6.35,-3.81; NC382 6.35,-5.08; NC383 6.35,-6.35; NC384 6.35,-7.62; NC385 6.35,-8.89; NC386 6.35,-10.16; NC387 6.35,-11.43; NC388 7.62,11.43; NC389 7.62,10.16; NC390 7.62,8.89; NC391 7.62,7.62; NC392 7.62,6.35; NC393 7.62,5.08; NC394 7.62,3.81; NC395 7.62,2.54; NC396 7.62,1.27; NC397 7.62,0; NC398 7.62,-1.27; NC399 7.62,-2.54; NC400 7.62,-3.81; NC401 7.62,-5.08; NC402 7.62,-6.35; NC403 7.62,-7.62; NC404 7.62,-8.89; NC405 7.62,-10.16; NC406 7.62,-11.43; NC407 8.89,11.43; NC408 8.89,10.16; NC409 8.89,8.89; NC410 8.89,7.62; NC411 8.89,6.35; NC412 8.89,5.08; NC413 8.89,3.81; NC414 8.89,2.54; NC415 8.89,1.27; NC416 8.89,0; NC417 8.89,-1.27; NC418 8.89,-2.54; NC419 8.89,-3.81; NC420 8.89,-5.08; NC421 8.89,-6.35; NC422 8.89,-7.62; NC423 8.89,-8.89; NC424 8.89,-10.16; NC425 8.89,-11.43; NC426 10.16,11.43; NC427 10.16,10.16; NC428 10.16,8.89; NC429 10.16,7.62; NC430 10.16,6.35; NC431 10.16,5.08; NC432 10.16,3.81; NC433 10.16,2.54; NC434 10.16,1.27; NC435 10.16,0; NC436 10.16,-1.27; NC437 10.16,-2.54; NC438 10.16,-3.81; NC439 10.16,-5.08; NC440 10.16,-6.35; NC441 10.16,-7.62; NC442 10.16,-8.89; NC443 10.16,-10.16; NC444 10.16,-11.43; NC445 11.43,11.43; NC446 11.43,10.16; NC447 11.43,8.89; NC448 11.43,7.62; NC449 11.43,6.35; NC450 11.43,5.08; NC451 11.43,3.81; NC452 11.43,2.54; NC453 11.43,1.27; NC454 11.43,0; NC455 11.43,-1.27; NC456 11.43,-2.54; NC457 11.43,-3.81; NC458 11.43,-5.08; NC459 11.43,-6.35; NC460 11.43,-7.62; NC461 11.43,-8.89; NC462 11.43,-10.16; NC463 11.43,-11.43; NC464 12.7,11.43; NC465 12.7,10.16; NC466 12.7,8.89; NC467 12.7,7.62; NC468 12.7,6.35; NC469 12.7,5.08; NC470 12.7,3.81; NC471 12.7,2.54; NC472 12.7,1.27; NC473 12.7,0; NC474 12.7,-1.27; NC475 12.7,-2.54; NC476 12.7,-3.81; NC477 12.7,-5.08; NC478 12.7,-6.35; NC479 12.7,-7.62; NC480 12.7,-8.89; NC481 12.7,-10.16; NC482 12.7,-11.43; NC483 13.97,11.43; NC484 13.97,10.16; NC485 13.97,8.89; NC486 13.97,7.62; NC487 13.97,6.35; NC488 13.97,5.08; NC489 13.97,3.81; NC490 13.97,2.54; NC491 13.97,1.27; NC492 13.97,0; NC493 13.97,-1.27; NC494 13.97,-2.54; NC495 13.97,-3.81; NC496 13.97,-5.08; NC497 13.97,-6.35; NC498 13.97,-7.62; NC499 13.97,-8.89; NC500 13.97,-10.16; NC501 13.97,-11.43; NC502 15.24,11.43; NC503 15.24,10.16; NC504 15.24,8.89; NC505 15.24,7.62; NC506 15.24,6.35; NC507 15.24,5.08; NC508 15.24,3.81; NC509 15.24,2.54; NC510 15.24,1.27; NC511 15.24,0; NC512 15.24,-1.27; NC513 15.24,-2.54; NC514 15.24,-3.81; NC515 15.24,-5.08; NC516 15.24,-6.35; NC517 15.24,-7.62; NC518 15.24,-8.89; NC519 15.24,-10.16; NC520 15.24,-11.43; NC521 16.51,11.43; NC522 16.51,10.16; NC523 16.51,8.89; NC524 16.51,7.62; NC525 16.51,6.35; NC526 16.51,5.08; NC527 16.51,3.81; NC528 16.51,2.54; NC529 16.51,1.27; NC530 16.51,0; NC531 16.51,-1.27; NC532 16.51,-2.54; NC533 16.51,-3.81; NC534 16.51,-5.08; NC535 16.51,-6.35; NC536 16.51,-7.62; NC537 16.51,-8.89; NC538 16.51,-10.16; NC539 16.51,-11.43; NC540 16.51,17.78; NC541 17.78,16.51; NC542 17.78,15.24; NC543 17.78,13.97; NC544 17.78,12.7; NC545 17.78,11.43; NC546 17.78,10.16; NC547 17.78,8.89; NC548 17.78,7.62; NC549 17.78,6.35; NC550 17.78,5.08; NC551 17.78,3.81; NC552 17.78,2.54; NC553 17.78,1.27; NC554 17.78,0; NC555 17.78,-1.27; NC556 17.78,-2.54; NC557 17.78,-3.81; NC558 17.78,-5.08; NC559 17.78,-6.35; NC560 17.78,-7.62; NC561 17.78,-8.89; NC562 17.78,-10.16; NC563 17.78,-11.43; NC564 17.78,-12.7; NC565 17.78,-13.97; NC566 17.78,-15.24; NC567 17.78,-16.51; NC568 16.51,-17.78
hole 0.6 at -19,0
hole 0.6 at 19,0
hole 0.6 at -19,0
hole 0.6 at 19,0